# Altium integrated library TI Power Management Battery Management.IntLib: 949 symbols (part 50 of 62)
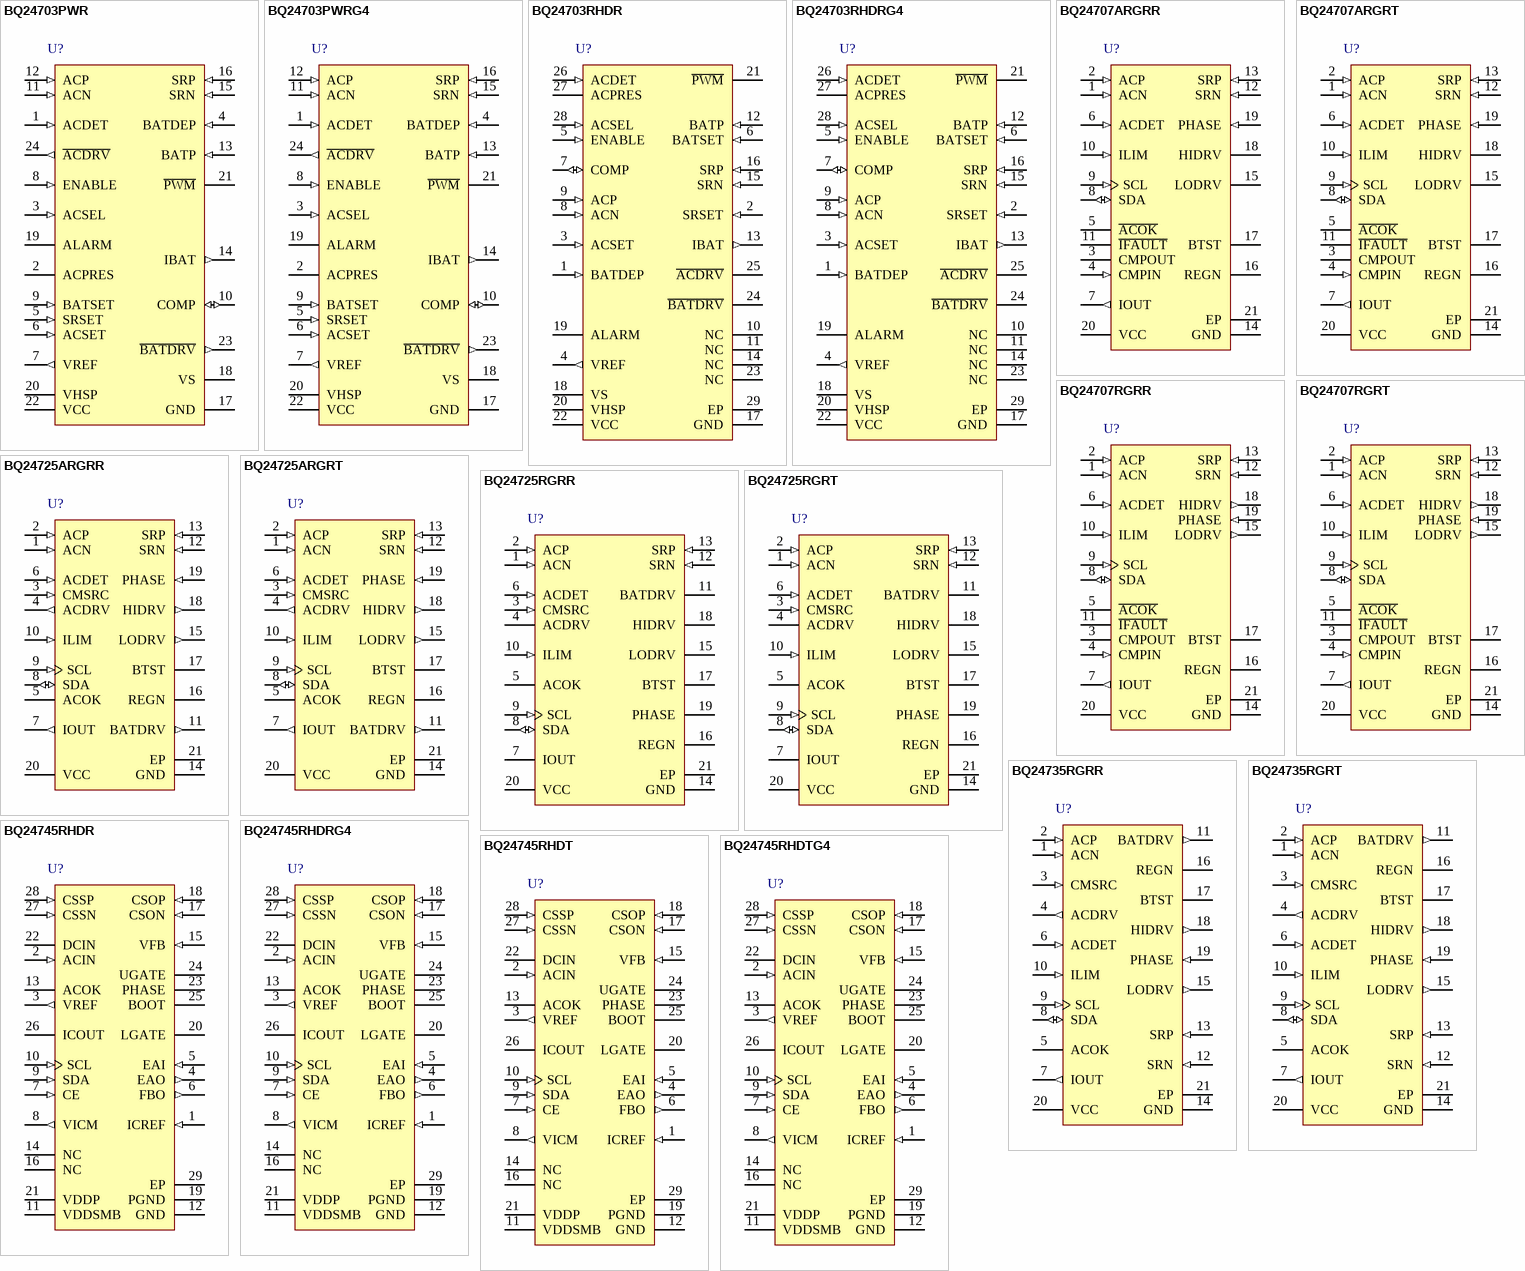
[diagram p83: symbols BQ24703PWR to BQ24745RHDTG4]

## BQ24735RGRT
designator U?
1-4 Cell Li+ Battery SMBus Charge Controller for Supporting Turbo Boost Mode, -40 to 85 degC, 20-pin VQFN (RGR), Green (RoHS & no Sb/Br); PartNumber: BQ24735RGRT; Manufacturer: Texas Instruments; Lead Acid: N; SubFamily: Battery Charge Management; DatasheetVersion: SLUSAK9; PackageVersion: revA, Apr-2009; PackageReference: RGR20-2050X2050TP; PackageDescription: 20-Pin Plastic Quad Flatpack No-Lead, 3.5 x 3.5 mm Body, 0.5 mm Pitch, Exposed Pad; Supplier 1: Digi-Key; Supplier Part Number 1: 296-29535-2-ND; Supplier 2: Digi-Key; Supplier Part Number 2: 296-29535-1-ND; Supplier 3: Digi-Key; Supplier Part Number 3: 296-29535-6-ND; Supplier 4: Farnell; Supplier Part Number 4: 2064218; Supplier 5: Newark; Supplier Part Number 5: 71T7469; Supplier 6: Newark; Supplier Part Number 6: 64T2887; Supplier 7: Mouser; Supplier Part Number 7: 595-BQ24735RGRT; Eco-Plan: Green (RoHS & no Sb/Br); Li-Ion: N; Li-Polymer: N; NiCd: N; NiMH: N; Over Voltage Protection: N; Mounting Technology: Surface Mount; ComponentLink1Description: Datasheet; ComponentLink1URL: http://www.ti.com/general/docs/lit/getliterature.tsp?genericPartNumber=BQ24735&fileType=pdf
footprint RGR20-2050X2050TP (QFN, 20-Leads, Body 3.5x3.5mm, Pitch 0.5mm, Thermal Pad 2.05x2.05mm, TI Recommended)
pins: 1 ACN (in) "Input current sense resistor negative input. Place an optional 0.1uF ceramic capacitor from ACN to GND for common-mode filtering. Place a 0.1uF ceramic capacitor from ACN to ACP to provide differential mode filtering.", 2 ACP (in) "Input current sense resistor positive input. Place a 0.1uF ceramic capacitor from ACP to GND for common-mode filtering. Place a 0.1µF ceramic capacitor from ACN to ACP to provide differential-mode filtering.", 3 CMSRC (in) "ACDRV charge pump source input. Place a 4k ohm  resistor from CMSRC to the common source of ACFET (Q1) and RBFET (Q2) limits the in-rush current on CMSRC pin.", 4 ACDRV (out) "Charge pump output to drive both adapter input n-channel MOSFET (ACFET) and reverse blocking n-channel MOSFET (RBFET). ACDRV voltage is 6V above CMSRC when voltage on ACDET pin is between 2.4V to 3.15V, voltage on VCC pin is (See Datasheet)", 5 ACOK (oc) "AC adapter detection open drain output. It is pulled HIGH to external pull-up supply rail by external pull-up resistor when voltage on ACDET pin is between 2.4V and 3.15V, and voltage on VCC is above UVLO and voltage on VCC (See Datasheet)", 6 ACDET (in) "Adapter detection input. Program adapter valid input threshold by connecting a resistor divider from adapter input to ACDET pin to GND pin. When ACDET pin is above 0.6V and VCC is above UVLO, REGN LDO is present, ACOK (See Datasheet)", 7 IOUT (out) "Buffered adapter or charge current output, selectable with SMBus command ChargeOption(). IOUT voltage is 20 times the differential voltage across sense resistor. Place a 100pF or less ceramic decoupling capacitor from IOUT (See Datasheet)", 8 SDA (io) "SMBus open-drain data I/O. Connect to SMBus data line from the host controller or smart battery. Connect a 10kohm pull-up resistor according to SMBus specifications.", 9 SCL (in) "SMBus open-drain clock input. Connect to SMBus clock line from the host controller or smart battery. Connect a 10kohm pull-up resistor according to SMBus specifications.", 10 ILIM (in) "Charge current limit input. Program ILIM voltage by connecting a resistor divider from system reference 3.3V rail to ILIM pin to GND pin. The lower of ILIM voltage or DAC limit voltage sets charge current regulation limit. (See Datasheet)", 11 BATDRV (out) "Charge pump output to drive Battery to System n-channel MOSFET (BATFET). BATDRV voltage is 6V above SRN to turn on BATFET to power the system from battery. BATDRV voltage is SRN voltage to turn off BATFET to power system (See Datasheet)", 12 SRN (in) "Charge current sense resistor negative input. SRN pin is for battery voltage sensing as well. Connect SRN pin to a 7.5 ohm resistor first then from resistor another terminal connect a 0.1uF ceramic capacitor to GND for (See Datasheet)", 13 SRP (in) "Charge current sense resistor positive input. Connect SRP pin to a 10 ohm resistor first then from resistor another terminal connect to current sensing resistor. Connect a 0.1uF ceramic capacitor between current sensing (See Datasheet)", 14 GND (power) "IC ground. On PCB layout, connect to analog ground plane, and only connect to power ground plane through the power pad underneath IC.", 15 LODRV (out) "Low side power MOSFET driver output. Connect to low side n-channel MOSFET gate.", 16 REGN (power) "Linear regulator output. REGN is the output of the 6V linear regulator supplied from VCC. The LDO is active when voltage on ACDET pin is above 0.6V and voltage on VCC is above UVLO. Connect a 1uF ceramic capacitor from REGN (See Datasheet)", 17 BTST (power) "High side power MOSFET driver power supply. Connect a 0.047uF capacitor from BTST to PHASE, and a bootstrap Schottky diode from REGN to BTST", 18 HIDRV (out) "High side power MOSFET driver output. Connect to the high side n-channel MOSFET gate.", 19 PHASE (in) "High side power MOSFET driver source. Connect to the source of the high side n-channel MOSFET", 20 VCC (power) "Input supply, diode OR from adapter or battery voltage. Use 10ohm resistor and 1uF capacitor to ground as low pass filter to limit inrush current.", 21 EP (power) "Exposed pad beneath the IC. Analog ground and power ground star-connected only at the PowerPad plane. Always solder PowerPad to the board, and have vias on the PowerPad plane connecting to analog ground and power ground (See Datasheet)"

## BQ24745RHDR
designator U?
SMBus-Controlled Level 2 Multi-Chemistry Battery Charger with Input Current Detect Comparator, 7 V, 0 to 125 degC, 28-pin VQFN (RHD), Green (RoHS & no Sb/Br); PartNumber: BQ24745RHDR; Manufacturer: Texas Instruments; Lead Acid: Y; Over Voltage Protection: N; SubFamily: Battery Charge Management; Vin(Min)(V): 7; DatasheetVersion: SLUS761D; PackageVersion: revF, Sep-2011; PackageReference: RHD28-3150X3150TP; PackageDescription: 28-Pin Plastic Quad Flatpack No-Lead, 5 x 5 mm Body, 0.5 mm Pitch, Exposed Pad; Supplier 1: Digi-Key; Supplier Part Number 1: BQ24745RHDR-ND; Supplier 2: Mouser; Supplier Part Number 2: 595-BQ24745RHDR; Eco-Plan: Green (RoHS & no Sb/Br); Li-Ion: Y; Li-Polymer: Y; NiCd: Y; NiMH: Y; Mounting Technology: Surface Mount; Code_JEDEC: MO-220; ComponentLink1Description: Datasheet; ComponentLink1URL: http://www.ti.com/general/docs/lit/getliterature.tsp?genericPartNumber=BQ24745&fileType=pdf
footprint RHD28-3150X3150TP (QFN, 28-Leads, Body 5x5mm, Pitch 0.5mm, Thermal Pad 3.15x3.15mm, TI Recommended)
pins: 1 ICREF (in) "Input-current comparator voltage reference input. Connect a resistor divider from VREF to ICREF and from ICREF to GND to program the reference for the ICOUT comparator. The ICREF pin voltage is compared to the VICM pin (See Datasheet)", 2 ACIN (in) "Adapter-detected voltage-set input. Program the adapter-detect threshold by connecting a resistor divider from the adapter input to ACIN pin to GND. Adapter voltage is detected if the ACIN-pin voltage is greater than 2.4 V. (See Datasheet)", 3 VREF (out) "3.3-V regulated voltage output. Place a 1-uF ceramic capacitor from VREF to the GND pin close to the IC. This voltage could be used for ratiometric programming of voltage and current regulation and for programming the ICREF (See Datasheet)", 4 EAO (out) "Error amplifier output for compensation. Connect the feedback-compensation components from EAO to EAI. Typically, a capacitor in parallel with a series resistor and capacitor. This node is internally compared to the PWM (See Datasheet)", 5 EAI (in) "Error amplifier input for compensation. Connect the feedback compensation components from EAI to EAO. Connect the input compensation from FBO to EAI.", 6 FBO (out) "Feedback output for compensation. Connect the input compensation from FBO to EAI. Typically, a resistor in parallel with a series resistor and capacitor.", 7 CE (in) "Charge enable active-high logic input. HI enables charge. LO disables charge.", 8 VICM (out) "Adapter current-sense-amplifier output. The VICM voltage is 20 times the differential voltage across CSSP-CSSN. Place a 100-pF (max) or less ceramic decoupling capacitor from VICM to GND.", 9 SDA (in) "SMBus data input. Connect to the SMBus data line from the host controller. A 10-k ohm pullup resistor to the host controller power rail is needed.", 10 SCL (in) "SMBus clock input. Connect to the SMBus clock line from the host controller. A 10-k ohm pullup resistor to the host controller power rail is needed.", 11 VDDSMB (power) "Input voltage for SMBus logic. Connect a 3.3-V supply rail or 5-V rail to the VDDSMB pin. Connect a 0.1-uF ceramic capacitor from VDDSMB to GND for decoupling.", 12 GND (power) "Analog ground. On PCB layout, connect to the analog ground plane, and only connect to PGND through the thermal pad underneath the IC.", 13 ACOK (oc) "Valid adapter active-high detect logic open-drain output. Pulled HI when Input voltage is above the ACIN programmed threshold. Connect a 10-k ohm pullup resistor from the ACOK pin to pull up the supply rail.", 14 NC "No connect. Pin floating internally.", 15 VFB (in) "Battery-voltage remote sense. Directly connect a Kelvin sense trace from the battery-pack positive terminal to the VFB pin to sense the battery pack voltage accurately. Place a 0.1-uF capacitor from VFB to GND close to the (See Datasheet)", 16 NC "No Connect. Pin floating internally", 17 CSON (in) "Charge-current sense resistor, negative input. An optional 0.1-uF ceramic capacitor is placed from the CSON pin to GND for common-mode filtering. A 0.1-uF ceramic capacitor is placed from CSON to CSOP to provide (See Datasheet)", 18 CSOP (in) "Charge-current sense resistor, positive input. A 0.1-uF ceramic capacitor is placed from CSOP pin to GND for common-mode filtering. A 0.1-uF ceramic capacitor is placed from CSON to CSOP to provide differential-mode (See Datasheet)", 19 PGND (power) "Power ground. On PCB layout, connect directly to the source of the low-side power MOSFET, and to the to ground connection of the input and output capacitors of the charger. Only connect to GND through the thermal pad (See Datasheet)", 20 LGATE "PWM low-side driver output. Connect to the gate of the low-side power MOSFET with a short trace.", 21 VDDP (power) "PWM low-side driver positive 6-V supply output. Connect a 1-uF ceramic capacitor from VDDP to the PGND pin, close to the IC. Use for high-side driver bootstrap voltage by connecting a small signal Schottky diode from VDDP to (See Datasheet)", 22 DCIN (power) "IC-power positive supply. Connect to the common-source (diode-OR) point: source of high-side P-channel MOSFET and source of reverse blocking power P-channel MOSFET. Place a 1-uF ceramic capacitor from DCIN to the GND pin (See Datasheet)", 23 PHASE (power) "PWM high-side driver negative supply. Connect to the phase-switching node (junction of the low-side power MOSFET drain, high-side power MOSFET source, and output inductor). Connect the 0.1-uF bootstrap capacitor from PHASE (See Datasheet)", 24 UGATE "PWM high-side driver output. Connect to the gate of the high-side power MOSFET with a short trace.", 25 BOOT (power) "PWM high-side driver positive supply. Connect a 0.1-uF bootstrap ceramic capacitor from BOOT to PHASE. Connect a small bootstrap Schottky diode from VDDP to BOOT.", 26 ICOUT (oc) "Input-current comparator active-high open-drain logic output. Place a 10-k ohm pullup resistor from the ICOUT pin to the pullup voltage rail. Place a positive-feedback resistor from the ICOUT pin to the ICREF pin for (See Datasheet)", 27 CSSN (in) "Adapter current-sense resistor, negative input. An optional 0.1-uF ceramic capacitor is placed from the CSSN pin to GND for common-mode filtering. A 0.1-uF ceramic capacitor is placed from CSSN to CSSP to provide (See Datasheet)", 28 CSSP (in) "Adapter current-sense resistor, positive input. A 0.1-uF ceramic capacitor is placed from the CSSP pin to GND for common-mode filtering. A 0.1-uF ceramic capacitor is placed from CSSN to CSSP to provide differential-mode (See Datasheet)", 29 EP (power) "Exposed pad"

## BQ24745RHDRG4
designator U?
SMBus-Controlled Level 2 Multi-Chemistry Battery Charger with Input Current Detect Comparator, 7 V, 0 to 125 degC, 28-pin VQFN (RHD), Green (RoHS & no Sb/Br); PartNumber: BQ24745RHDRG4; Manufacturer: Texas Instruments; Lead Acid: Y; Over Voltage Protection: N; SubFamily: Battery Charge Management; Vin(Min)(V): 7; DatasheetVersion: SLUS761D; PackageVersion: revF, Sep-2011; PackageReference: RHD28-3150X3150TP; PackageDescription: 28-Pin Plastic Quad Flatpack No-Lead, 5 x 5 mm Body, 0.5 mm Pitch, Exposed Pad; Supplier 1: Digi-Key; Supplier Part Number 1: BQ24745RHDRG4-ND; Supplier 2: Mouser; Supplier Part Number 2: 595-BQ24745RHDRG4; Eco-Plan: Green (RoHS & no Sb/Br); Li-Ion: Y; Li-Polymer: Y; NiCd: Y; NiMH: Y; Mounting Technology: Surface Mount; Code_JEDEC: MO-220; ComponentLink1Description: Datasheet; ComponentLink1URL: http://www.ti.com/general/docs/lit/getliterature.tsp?genericPartNumber=BQ24745&fileType=pdf
footprint RHD28-3150X3150TP (QFN, 28-Leads, Body 5x5mm, Pitch 0.5mm, Thermal Pad 3.15x3.15mm, TI Recommended)
pins: 1 ICREF (in) "Input-current comparator voltage reference input. Connect a resistor divider from VREF to ICREF and from ICREF to GND to program the reference for the ICOUT comparator. The ICREF pin voltage is compared to the VICM pin (See Datasheet)", 2 ACIN (in) "Adapter-detected voltage-set input. Program the adapter-detect threshold by connecting a resistor divider from the adapter input to ACIN pin to GND. Adapter voltage is detected if the ACIN-pin voltage is greater than 2.4 V. (See Datasheet)", 3 VREF (out) "3.3-V regulated voltage output. Place a 1-uF ceramic capacitor from VREF to the GND pin close to the IC. This voltage could be used for ratiometric programming of voltage and current regulation and for programming the ICREF (See Datasheet)", 4 EAO (out) "Error amplifier output for compensation. Connect the feedback-compensation components from EAO to EAI. Typically, a capacitor in parallel with a series resistor and capacitor. This node is internally compared to the PWM (See Datasheet)", 5 EAI (in) "Error amplifier input for compensation. Connect the feedback compensation components from EAI to EAO. Connect the input compensation from FBO to EAI.", 6 FBO (out) "Feedback output for compensation. Connect the input compensation from FBO to EAI. Typically, a resistor in parallel with a series resistor and capacitor.", 7 CE (in) "Charge enable active-high logic input. HI enables charge. LO disables charge.", 8 VICM (out) "Adapter current-sense-amplifier output. The VICM voltage is 20 times the differential voltage across CSSP-CSSN. Place a 100-pF (max) or less ceramic decoupling capacitor from VICM to GND.", 9 SDA (in) "SMBus data input. Connect to the SMBus data line from the host controller. A 10-k ohm pullup resistor to the host controller power rail is needed.", 10 SCL (in) "SMBus clock input. Connect to the SMBus clock line from the host controller. A 10-k ohm pullup resistor to the host controller power rail is needed.", 11 VDDSMB (power) "Input voltage for SMBus logic. Connect a 3.3-V supply rail or 5-V rail to the VDDSMB pin. Connect a 0.1-uF ceramic capacitor from VDDSMB to GND for decoupling.", 12 GND (power) "Analog ground. On PCB layout, connect to the analog ground plane, and only connect to PGND through the thermal pad underneath the IC.", 13 ACOK (oc) "Valid adapter active-high detect logic open-drain output. Pulled HI when Input voltage is above the ACIN programmed threshold. Connect a 10-k ohm pullup resistor from the ACOK pin to pull up the supply rail.", 14 NC "No connect. Pin floating internally.", 15 VFB (in) "Battery-voltage remote sense. Directly connect a Kelvin sense trace from the battery-pack positive terminal to the VFB pin to sense the battery pack voltage accurately. Place a 0.1-uF capacitor from VFB to GND close to the (See Datasheet)", 16 NC "No Connect. Pin floating internally", 17 CSON (in) "Charge-current sense resistor, negative input. An optional 0.1-uF ceramic capacitor is placed from the CSON pin to GND for common-mode filtering. A 0.1-uF ceramic capacitor is placed from CSON to CSOP to provide (See Datasheet)", 18 CSOP (in) "Charge-current sense resistor, positive input. A 0.1-uF ceramic capacitor is placed from CSOP pin to GND for common-mode filtering. A 0.1-uF ceramic capacitor is placed from CSON to CSOP to provide differential-mode (See Datasheet)", 19 PGND (power) "Power ground. On PCB layout, connect directly to the source of the low-side power MOSFET, and to the to ground connection of the input and output capacitors of the charger. Only connect to GND through the thermal pad (See Datasheet)", 20 LGATE "PWM low-side driver output. Connect to the gate of the low-side power MOSFET with a short trace.", 21 VDDP (power) "PWM low-side driver positive 6-V supply output. Connect a 1-uF ceramic capacitor from VDDP to the PGND pin, close to the IC. Use for high-side driver bootstrap voltage by connecting a small signal Schottky diode from VDDP to (See Datasheet)", 22 DCIN (power) "IC-power positive supply. Connect to the common-source (diode-OR) point: source of high-side P-channel MOSFET and source of reverse blocking power P-channel MOSFET. Place a 1-uF ceramic capacitor from DCIN to the GND pin (See Datasheet)", 23 PHASE (power) "PWM high-side driver negative supply. Connect to the phase-switching node (junction of the low-side power MOSFET drain, high-side power MOSFET source, and output inductor). Connect the 0.1-uF bootstrap capacitor from PHASE (See Datasheet)", 24 UGATE "PWM high-side driver output. Connect to the gate of the high-side power MOSFET with a short trace.", 25 BOOT (power) "PWM high-side driver positive supply. Connect a 0.1-uF bootstrap ceramic capacitor from BOOT to PHASE. Connect a small bootstrap Schottky diode from VDDP to BOOT.", 26 ICOUT (oc) "Input-current comparator active-high open-drain logic output. Place a 10-k ohm pullup resistor from the ICOUT pin to the pullup voltage rail. Place a positive-feedback resistor from the ICOUT pin to the ICREF pin for (See Datasheet)", 27 CSSN (in) "Adapter current-sense resistor, negative input. An optional 0.1-uF ceramic capacitor is placed from the CSSN pin to GND for common-mode filtering. A 0.1-uF ceramic capacitor is placed from CSSN to CSSP to provide (See Datasheet)", 28 CSSP (in) "Adapter current-sense resistor, positive input. A 0.1-uF ceramic capacitor is placed from the CSSP pin to GND for common-mode filtering. A 0.1-uF ceramic capacitor is placed from CSSN to CSSP to provide differential-mode (See Datasheet)", 29 EP (power) "Exposed pad"

## BQ24745RHDT
designator U?
SMBus-Controlled Level 2 Multi-Chemistry Battery Charger with Input Current Detect Comparator, 7 V, 0 to 125 degC, 28-pin VQFN (RHD), Green (RoHS & no Sb/Br); PartNumber: BQ24745RHDT; Manufacturer: Texas Instruments; Lead Acid: Y; Over Voltage Protection: N; SubFamily: Battery Charge Management; Vin(Min)(V): 7; DatasheetVersion: SLUS761D; PackageVersion: revF, Sep-2011; PackageReference: RHD28-3150X3150TP; PackageDescription: 28-Pin Plastic Quad Flatpack No-Lead, 5 x 5 mm Body, 0.5 mm Pitch, Exposed Pad; Supplier 1: Digi-Key; Supplier Part Number 1: 296-22995-2-ND; Supplier 2: Digi-Key; Supplier Part Number 2: 296-22995-1-ND; Supplier 3: Digi-Key; Supplier Part Number 3: 296-22995-6-ND; Supplier 4: Farnell; Supplier Part Number 4: 1647900; Supplier 5: Mouser; Supplier Part Number 5: 595-BQ24745RHDT; Eco-Plan: Green (RoHS & no Sb/Br); Li-Ion: Y; Li-Polymer: Y; NiCd: Y; NiMH: Y; Mounting Technology: Surface Mount; Code_JEDEC: MO-220; ComponentLink1Description: Datasheet; ComponentLink1URL: http://www.ti.com/general/docs/lit/getliterature.tsp?genericPartNumber=BQ24745&fileType=pdf
footprint RHD28-3150X3150TP (QFN, 28-Leads, Body 5x5mm, Pitch 0.5mm, Thermal Pad 3.15x3.15mm, TI Recommended)
pins: 1 ICREF (in) "Input-current comparator voltage reference input. Connect a resistor divider from VREF to ICREF and from ICREF to GND to program the reference for the ICOUT comparator. The ICREF pin voltage is compared to the VICM pin (See Datasheet)", 2 ACIN (in) "Adapter-detected voltage-set input. Program the adapter-detect threshold by connecting a resistor divider from the adapter input to ACIN pin to GND. Adapter voltage is detected if the ACIN-pin voltage is greater than 2.4 V. (See Datasheet)", 3 VREF (out) "3.3-V regulated voltage output. Place a 1-uF ceramic capacitor from VREF to the GND pin close to the IC. This voltage could be used for ratiometric programming of voltage and current regulation and for programming the ICREF (See Datasheet)", 4 EAO (out) "Error amplifier output for compensation. Connect the feedback-compensation components from EAO to EAI. Typically, a capacitor in parallel with a series resistor and capacitor. This node is internally compared to the PWM (See Datasheet)", 5 EAI (in) "Error amplifier input for compensation. Connect the feedback compensation components from EAI to EAO. Connect the input compensation from FBO to EAI.", 6 FBO (out) "Feedback output for compensation. Connect the input compensation from FBO to EAI. Typically, a resistor in parallel with a series resistor and capacitor.", 7 CE (in) "Charge enable active-high logic input. HI enables charge. LO disables charge.", 8 VICM (out) "Adapter current-sense-amplifier output. The VICM voltage is 20 times the differential voltage across CSSP-CSSN. Place a 100-pF (max) or less ceramic decoupling capacitor from VICM to GND.", 9 SDA (in) "SMBus data input. Connect to the SMBus data line from the host controller. A 10-k ohm pullup resistor to the host controller power rail is needed.", 10 SCL (in) "SMBus clock input. Connect to the SMBus clock line from the host controller. A 10-k ohm pullup resistor to the host controller power rail is needed.", 11 VDDSMB (power) "Input voltage for SMBus logic. Connect a 3.3-V supply rail or 5-V rail to the VDDSMB pin. Connect a 0.1-uF ceramic capacitor from VDDSMB to GND for decoupling.", 12 GND (power) "Analog ground. On PCB layout, connect to the analog ground plane, and only connect to PGND through the thermal pad underneath the IC.", 13 ACOK (oc) "Valid adapter active-high detect logic open-drain output. Pulled HI when Input voltage is above the ACIN programmed threshold. Connect a 10-k ohm pullup resistor from the ACOK pin to pull up the supply rail.", 14 NC "No connect. Pin floating internally.", 15 VFB (in) "Battery-voltage remote sense. Directly connect a Kelvin sense trace from the battery-pack positive terminal to the VFB pin to sense the battery pack voltage accurately. Place a 0.1-uF capacitor from VFB to GND close to the (See Datasheet)", 16 NC "No Connect. Pin floating internally", 17 CSON (in) "Charge-current sense resistor, negative input. An optional 0.1-uF ceramic capacitor is placed from the CSON pin to GND for common-mode filtering. A 0.1-uF ceramic capacitor is placed from CSON to CSOP to provide (See Datasheet)", 18 CSOP (in) "Charge-current sense resistor, positive input. A 0.1-uF ceramic capacitor is placed from CSOP pin to GND for common-mode filtering. A 0.1-uF ceramic capacitor is placed from CSON to CSOP to provide differential-mode (See Datasheet)", 19 PGND (power) "Power ground. On PCB layout, connect directly to the source of the low-side power MOSFET, and to the to ground connection of the input and output capacitors of the charger. Only connect to GND through the thermal pad (See Datasheet)", 20 LGATE "PWM low-side driver output. Connect to the gate of the low-side power MOSFET with a short trace.", 21 VDDP (power) "PWM low-side driver positive 6-V supply output. Connect a 1-uF ceramic capacitor from VDDP to the PGND pin, close to the IC. Use for high-side driver bootstrap voltage by connecting a small signal Schottky diode from VDDP to (See Datasheet)", 22 DCIN (power) "IC-power positive supply. Connect to the common-source (diode-OR) point: source of high-side P-channel MOSFET and source of reverse blocking power P-channel MOSFET. Place a 1-uF ceramic capacitor from DCIN to the GND pin (See Datasheet)", 23 PHASE (power) "PWM high-side driver negative supply. Connect to the phase-switching node (junction of the low-side power MOSFET drain, high-side power MOSFET source, and output inductor). Connect the 0.1-uF bootstrap capacitor from PHASE (See Datasheet)", 24 UGATE "PWM high-side driver output. Connect to the gate of the high-side power MOSFET with a short trace.", 25 BOOT (power) "PWM high-side driver positive supply. Connect a 0.1-uF bootstrap ceramic capacitor from BOOT to PHASE. Connect a small bootstrap Schottky diode from VDDP to BOOT.", 26 ICOUT (oc) "Input-current comparator active-high open-drain logic output. Place a 10-k ohm pullup resistor from the ICOUT pin to the pullup voltage rail. Place a positive-feedback resistor from the ICOUT pin to the ICREF pin for (See Datasheet)", 27 CSSN (in) "Adapter current-sense resistor, negative input. An optional 0.1-uF ceramic capacitor is placed from the CSSN pin to GND for common-mode filtering. A 0.1-uF ceramic capacitor is placed from CSSN to CSSP to provide (See Datasheet)", 28 CSSP (in) "Adapter current-sense resistor, positive input. A 0.1-uF ceramic capacitor is placed from the CSSP pin to GND for common-mode filtering. A 0.1-uF ceramic capacitor is placed from CSSN to CSSP to provide differential-mode (See Datasheet)", 29 EP (power) "Exposed pad"

## BQ24745RHDTG4
designator U?
SMBus-Controlled Level 2 Multi-Chemistry Battery Charger with Input Current Detect Comparator, 7 V, 0 to 125 degC, 28-pin VQFN (RHD), Green (RoHS & no Sb/Br); PartNumber: BQ24745RHDTG4; Manufacturer: Texas Instruments; Lead Acid: Y; Over Voltage Protection: N; SubFamily: Battery Charge Management; Vin(Min)(V): 7; DatasheetVersion: SLUS761D; PackageVersion: revF, Sep-2011; PackageReference: RHD28-3150X3150TP; PackageDescription: 28-Pin Plastic Quad Flatpack No-Lead, 5 x 5 mm Body, 0.5 mm Pitch, Exposed Pad; Supplier 1: Digi-Key; Supplier Part Number 1: BQ24745RHDTG4-ND; Supplier 2: Mouser; Supplier Part Number 2: 595-BQ24745RHDTG4; Eco-Plan: Green (RoHS & no Sb/Br); Li-Ion: Y; Li-Polymer: Y; NiCd: Y; NiMH: Y; Mounting Technology: Surface Mount; Code_JEDEC: MO-220; ComponentLink1Description: Datasheet; ComponentLink1URL: http://www.ti.com/general/docs/lit/getliterature.tsp?genericPartNumber=BQ24745&fileType=pdf
footprint RHD28-3150X3150TP (QFN, 28-Leads, Body 5x5mm, Pitch 0.5mm, Thermal Pad 3.15x3.15mm, TI Recommended)
pins: 1 ICREF (in) "Input-current comparator voltage reference input. Connect a resistor divider from VREF to ICREF and from ICREF to GND to program the reference for the ICOUT comparator. The ICREF pin voltage is compared to the VICM pin (See Datasheet)", 2 ACIN (in) "Adapter-detected voltage-set input. Program the adapter-detect threshold by connecting a resistor divider from the adapter input to ACIN pin to GND. Adapter voltage is detected if the ACIN-pin voltage is greater than 2.4 V. (See Datasheet)", 3 VREF (out) "3.3-V regulated voltage output. Place a 1-uF ceramic capacitor from VREF to the GND pin close to the IC. This voltage could be used for ratiometric programming of voltage and current regulation and for programming the ICREF (See Datasheet)", 4 EAO (out) "Error amplifier output for compensation. Connect the feedback-compensation components from EAO to EAI. Typically, a capacitor in parallel with a series resistor and capacitor. This node is internally compared to the PWM (See Datasheet)", 5 EAI (in) "Error amplifier input for compensation. Connect the feedback compensation components from EAI to EAO. Connect the input compensation from FBO to EAI.", 6 FBO (out) "Feedback output for compensation. Connect the input compensation from FBO to EAI. Typically, a resistor in parallel with a series resistor and capacitor.", 7 CE (in) "Charge enable active-high logic input. HI enables charge. LO disables charge.", 8 VICM (out) "Adapter current-sense-amplifier output. The VICM voltage is 20 times the differential voltage across CSSP-CSSN. Place a 100-pF (max) or less ceramic decoupling capacitor from VICM to GND.", 9 SDA (in) "SMBus data input. Connect to the SMBus data line from the host controller. A 10-k ohm pullup resistor to the host controller power rail is needed.", 10 SCL (in) "SMBus clock input. Connect to the SMBus clock line from the host controller. A 10-k ohm pullup resistor to the host controller power rail is needed.", 11 VDDSMB (power) "Input voltage for SMBus logic. Connect a 3.3-V supply rail or 5-V rail to the VDDSMB pin. Connect a 0.1-uF ceramic capacitor from VDDSMB to GND for decoupling.", 12 GND (power) "Analog ground. On PCB layout, connect to the analog ground plane, and only connect to PGND through the thermal pad underneath the IC.", 13 ACOK (oc) "Valid adapter active-high detect logic open-drain output. Pulled HI when Input voltage is above the ACIN programmed threshold. Connect a 10-k ohm pullup resistor from the ACOK pin to pull up the supply rail.", 14 NC "No connect. Pin floating internally.", 15 VFB (in) "Battery-voltage remote sense. Directly connect a Kelvin sense trace from the battery-pack positive terminal to the VFB pin to sense the battery pack voltage accurately. Place a 0.1-uF capacitor from VFB to GND close to the (See Datasheet)", 16 NC "No Connect. Pin floating internally", 17 CSON (in) "Charge-current sense resistor, negative input. An optional 0.1-uF ceramic capacitor is placed from the CSON pin to GND for common-mode filtering. A 0.1-uF ceramic capacitor is placed from CSON to CSOP to provide (See Datasheet)", 18 CSOP (in) "Charge-current sense resistor, positive input. A 0.1-uF ceramic capacitor is placed from CSOP pin to GND for common-mode filtering. A 0.1-uF ceramic capacitor is placed from CSON to CSOP to provide differential-mode (See Datasheet)", 19 PGND (power) "Power ground. On PCB layout, connect directly to the source of the low-side power MOSFET, and to the to ground connection of the input and output capacitors of the charger. Only connect to GND through the thermal pad (See Datasheet)", 20 LGATE "PWM low-side driver output. Connect to the gate of the low-side power MOSFET with a short trace.", 21 VDDP (power) "PWM low-side driver positive 6-V supply output. Connect a 1-uF ceramic capacitor from VDDP to the PGND pin, close to the IC. Use for high-side driver bootstrap voltage by connecting a small signal Schottky diode from VDDP to (See Datasheet)", 22 DCIN (power) "IC-power positive supply. Connect to the common-source (diode-OR) point: source of high-side P-channel MOSFET and source of reverse blocking power P-channel MOSFET. Place a 1-uF ceramic capacitor from DCIN to the GND pin (See Datasheet)", 23 PHASE (power) "PWM high-side driver negative supply. Connect to the phase-switching node (junction of the low-side power MOSFET drain, high-side power MOSFET source, and output inductor). Connect the 0.1-uF bootstrap capacitor from PHASE (See Datasheet)", 24 UGATE "PWM high-side driver output. Connect to the gate of the high-side power MOSFET with a short trace.", 25 BOOT (power) "PWM high-side driver positive supply. Connect a 0.1-uF bootstrap ceramic capacitor from BOOT to PHASE. Connect a small bootstrap Schottky diode from VDDP to BOOT.", 26 ICOUT (oc) "Input-current comparator active-high open-drain logic output. Place a 10-k ohm pullup resistor from the ICOUT pin to the pullup voltage rail. Place a positive-feedback resistor from the ICOUT pin to the ICREF pin for (See Datasheet)", 27 CSSN (in) "Adapter current-sense resistor, negative input. An optional 0.1-uF ceramic capacitor is placed from the CSSN pin to GND for common-mode filtering. A 0.1-uF ceramic capacitor is placed from CSSN to CSSP to provide (See Datasheet)", 28 CSSP (in) "Adapter current-sense resistor, positive input. A 0.1-uF ceramic capacitor is placed from the CSSP pin to GND for common-mode filtering. A 0.1-uF ceramic capacitor is placed from CSSN to CSSP to provide differential-mode (See Datasheet)", 29 EP (power) "Exposed pad"

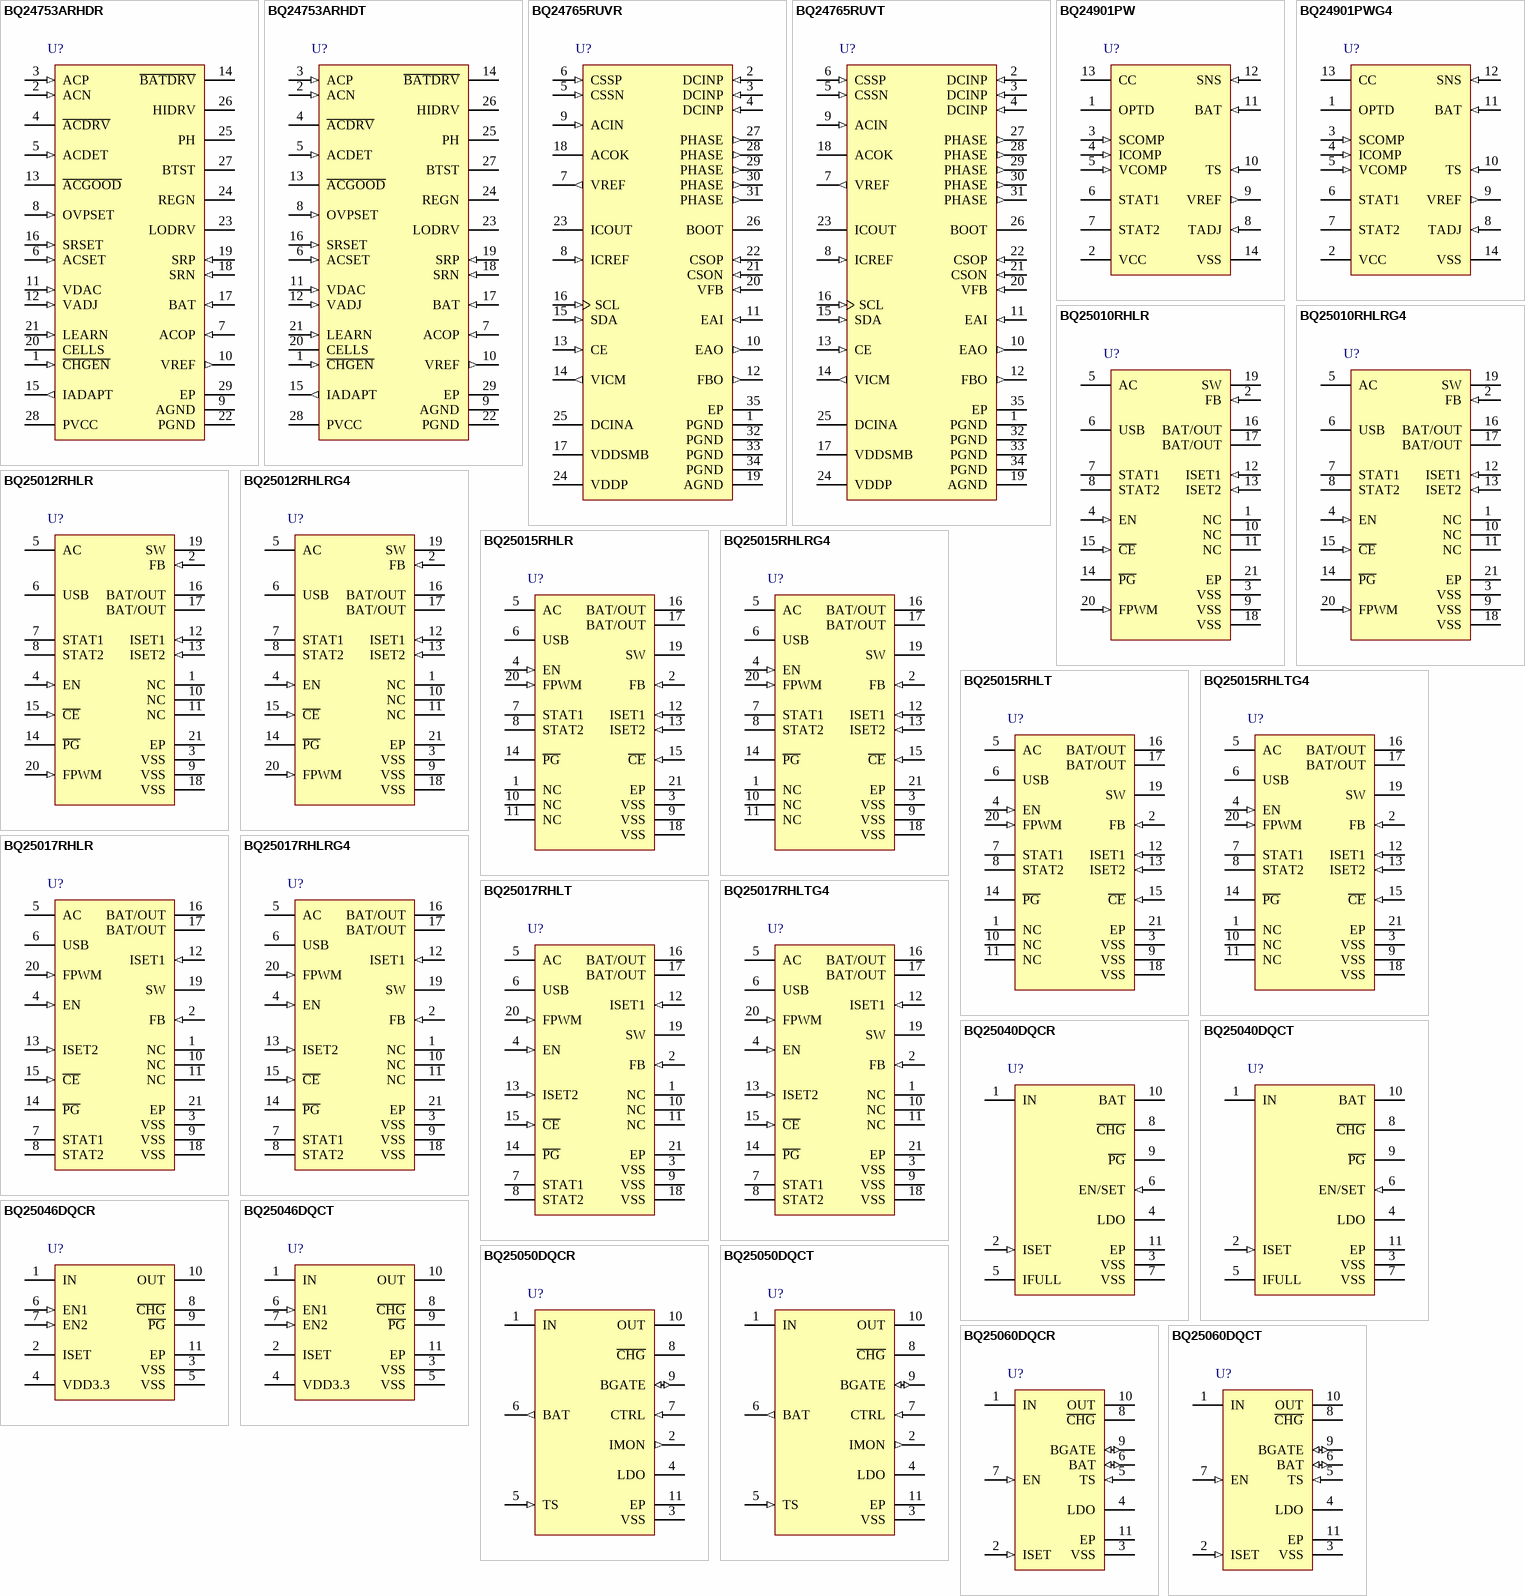
[diagram p27: symbols BQ24753ARHDR to BQ25060DQCT]

## BQ24753ARHDR
designator U?
Host-Controlled Li-Ion and Li-Polymer Battery Charger with Low Iq and System Power Selector, 7 V, -40 to 85 degC, 28-pin VQFN (RHD), Green (RoHS & no Sb/Br); PartNumber: BQ24753ARHDR; Manufacturer: Texas Instruments; Lead Acid: N; SubFamily: Battery Charge Management; Vin(Min)(V): 7; DatasheetVersion: SLUS920; PackageVersion: revF, Sep-2011; PackageReference: RHD28-3150X3150TP; PackageDescription: 28-Pin Plastic Quad Flatpack No-Lead, 5 x 5 mm Body, 0.5 mm Pitch, Exposed Pad; Supplier 1: Digi-Key; Supplier Part Number 1: BQ24753ARHDR-ND; Supplier 2: Mouser; Supplier Part Number 2: 595-BQ24753ARHDR; Eco-Plan: Green (RoHS & no Sb/Br); Li-Ion: N; Li-Polymer: N; NiCd: N; NiMH: N; Over Voltage Protection: N; Mounting Technology: Surface Mount; Code_JEDEC: MO-220; ComponentLink1Description: Datasheet; ComponentLink1URL: http://www.ti.com/general/docs/lit/getliterature.tsp?genericPartNumber=BQ24753A&fileType=pdf
footprint RHD28-3150X3150TP (QFN, 28-Leads, Body 5x5mm, Pitch 0.5mm, Thermal Pad 3.15x3.15mm, TI Recommended)
pins: 1 ~{CHGEN} (in) "Charge enable active-low logic input. LO enables charge. HI disables charge.", 2 ACN (in) "Adapter current sense resistor, negative input. A 0.1-uF ceramic capacitor is placed from ACN to ACP to provide differential-mode filtering. An optional 0.1-uF ceramic capacitor is placed from ACN pin to AGND for common-mode (See Datasheet)", 3 ACP (in) "Adapter current sense resistor, positive input. A 0.1-uF ceramic capacitor is placed from ACN to ACP to provide differential-mode filtering. A 0.1-uF ceramic capacitor is placed from ACP pin to AGND for common-mode filtering.", 4 ~{ACDRV} "AC adapter to system-switch driver output. Connect directly to the gate of the ACFET P-channel power MOSFET and the reverse conduction blocking P-channel power MOSFET. Connect both FETs as common-source. Connect the ACFET (See Datasheet)", 5 ACDET (in) "Adapter detected voltage set input. Program the adapter detect threshold by connecting a resistor divider from adapter input to ACDET pin to AGND pin. Adapter voltage is detected if ACDET-pin voltage is greater than 2.4 V. (See Datasheet)", 6 ACSET (in) "Adapter current set input. The voltage ratio of ACSET voltage versus VDAC voltage programs the input current regulation set-point during Dynamic Power Management (DPM). Program by connecting a resistor divider from VDAC to (See Datasheet)", 7 ACOP (in) "Input power limit set input. Program the input overpower time constant by placing a ceramic capacitor from ACOP to AGND. The capacitor sets the time that the input current limit, ACOC, can be sustained before exceeding the (See Datasheet)", 8 OVPSET (in) "Set input over voltage protection threshold. Charge is disabled and A\C\D\R\V\ is turned off if adapter input voltage is higher than the OVPSET programmed threshold. Input overvoltage, ACOV, disables charge and A\C\D\R\V\ (See Datasheet)", 9 AGND (power) "Analog ground. Ground connection for low-current sensitive analog and digital signals. On PCB layout, connect to the analog ground plane, and only connect to PGND through the PowerPad underneath the IC.", 10 VREF (out) "3.3-V regulated voltage output. Place a 1-uF ceramic capacitor from VREF to AGND pin close to the IC. This voltage could be used for ratiometric programming of voltage and current regulation. Do not apply an external voltage (See Datasheet)", 11 VDAC (in) "Charge voltage set reference input. Connect the VREF or external DAC voltage source to the VDAC pin. Battery voltage, charge current, and input current are programmed as a ratio of the VDAC pin voltage versus the VADJ, (See Datasheet)", 12 VADJ (in) "Charge voltage set input. The voltage ratio of VADJ voltage versus VDAC voltage programs the battery voltage regulation set-point. Program by connecting a resistor divider from VDAC to VADJ, to AGND; or, by connecting the (See Datasheet)", 13 ~{ACGOOD} (oc) "Valid adapter active-low detect logic open-drain output. Pulled low when Input voltage is above programmed ACDET.Connect a 10-k ohmpullup resistor from A\C\G\O\O\D\ to VREF, or to a different pullup-supply rail.", 14 ~{BATDRV} "Battery to system switch driver output. Gate drive for the battery to system load BAT PMOS power FET to isolate the system from the battery to prevent current flow from the system to the battery, while allowing a low (See Datasheet)", 15 IADAPT (out) "Adapter current sense amplifier output. IADAPT voltage is 20 times the differential voltage across ACP-ACN. Place a 100-pF or less ceramic decoupling capacitor from IADAPT to AGND.", 16 SRSET (in) "Charge current set input. The voltage ratio of SRSET voltage versus VDAC voltage programs the charge current regulation set-point. Program by connecting a resistor divider from VDAC to SRSET to AGND; or by connecting the (See Datasheet)", 17 BAT (in) "Battery voltage remote sense. Directly connect a kelvin sense trace from the battery pack positive terminal to the BAT pin to accurately sense the battery pack voltage. Place a 0.1-uF capacitor from BAT to AGND close to the (See Datasheet)", 18 SRN (in) "Charge current sense resistor, negative input. A 0.1-uF ceramic capacitor is placed from SRN to SRP to provide differential-mode filtering. An optional 0.1-uF ceramic capacitor is placed from SRN pin to AGND for common-mode (See Datasheet)", 19 SRP (in) "Charge current sense resistor, positive input. A 0.1-uF ceramic capacitor is placed from SRN to SRP to provide differential-mode filtering. A 0.1-uF ceramic capacitor is placed from SRP pin to AGND for common-mode filtering.", 20 CELLS "2, 3 or 4 cells selection logic input. Logic low programs 3 cell. Logic high programs 4 cell. Floating programs 2 cell.", 21 LEARN (in) "Learn mode logic input control pin -- logic high to override system selector when adapter is present, the battery is discharged to recalibrate the battery-pack gas gauge. When adapter is present and LEARN is high, battery (See Datasheet)", 22 PGND (power) "Power ground. Ground connection for high-current power converter node. On PCB layout, connect directly to source of low-side power MOSFET, to ground connection of in put and output capacitors of the charger. Only connect to (See Datasheet)", 23 LODRV "PWM low side driver output. Connect to the gate of the low-side power MOSFET with a short trace.", 24 REGN (power) "PWM low side driver positive 6-V supply output. Connect a 1-uF ceramic capacitor from REGN to PGND, close to the IC. Use for high-side driver bootstrap voltage by connecting a small-signal Schottky diode from REGN to BTST. (See Datasheet)", 25 PH (power) "PWM high side driver negative supply. Connect to the phase switching node (junction of the low-side power MOSFET drain, high-side power MOSFET source, and output inductor). Connect the 0.1-mF bootstrap capacitor from from PH (See Datasheet)", 26 HIDRV "PWM high side driver output. Connect to the gate of the high-side power MOSFET with a short trace.", 27 BTST (power) "PWM high side driver positive supply. Connect a 0.1-uF bootstrap ceramic capacitor from BTST to PH. Connect a small bootstrap Schottky diode from REGN to BTST.", 28 PVCC (power) "IC power positive supply. Connect to the common-source (diode-OR) point: source of high-side P-channel MOSFET and source of reverse-blocking power P-channel MOSFET. Place a 0.1-uF ceramic capacitor from PVCC to PGND pin (See Datasheet)", 29 EP (power) "Exposed pad beneath the IC. AGND and PGND star-connected only at the PowerPad plane. Always solder PowerPad to the board, and have vias on the PowerPad plane connecting to AGND and PGND planes. It also serves as a thermal (See Datasheet)"

## BQ24753ARHDT
designator U?
Host-Controlled Li-Ion and Li-Polymer Battery Charger with Low Iq and System Power Selector, 7 V, -40 to 85 degC, 28-pin VQFN (RHD), Green (RoHS & no Sb/Br); PartNumber: BQ24753ARHDT; Manufacturer: Texas Instruments; Lead Acid: N; SubFamily: Battery Charge Management; Vin(Min)(V): 7; DatasheetVersion: SLUS920; PackageVersion: revF, Sep-2011; PackageReference: RHD28-3150X3150TP; PackageDescription: 28-Pin Plastic Quad Flatpack No-Lead, 5 x 5 mm Body, 0.5 mm Pitch, Exposed Pad; Supplier 1: Digi-Key; Supplier Part Number 1: 296-24866-2-ND; Supplier 2: Digi-Key; Supplier Part Number 2: 296-24866-1-ND; Supplier 3: Digi-Key; Supplier Part Number 3: 296-24866-6-ND; Supplier 4: Mouser; Supplier Part Number 4: 595-BQ24753ARHDT; Eco-Plan: Green (RoHS & no Sb/Br); Li-Ion: N; Li-Polymer: N; NiCd: N; NiMH: N; Over Voltage Protection: N; Mounting Technology: Surface Mount; Code_JEDEC: MO-220; ComponentLink1Description: Datasheet; ComponentLink1URL: http://www.ti.com/general/docs/lit/getliterature.tsp?genericPartNumber=BQ24753A&fileType=pdf
footprint RHD28-3150X3150TP (QFN, 28-Leads, Body 5x5mm, Pitch 0.5mm, Thermal Pad 3.15x3.15mm, TI Recommended)
pins: 1 ~{CHGEN} (in) "Charge enable active-low logic input. LO enables charge. HI disables charge.", 2 ACN (in) "Adapter current sense resistor, negative input. A 0.1-uF ceramic capacitor is placed from ACN to ACP to provide differential-mode filtering. An optional 0.1-uF ceramic capacitor is placed from ACN pin to AGND for common-mode (See Datasheet)", 3 ACP (in) "Adapter current sense resistor, positive input. A 0.1-uF ceramic capacitor is placed from ACN to ACP to provide differential-mode filtering. A 0.1-uF ceramic capacitor is placed from ACP pin to AGND for common-mode filtering.", 4 ~{ACDRV} "AC adapter to system-switch driver output. Connect directly to the gate of the ACFET P-channel power MOSFET and the reverse conduction blocking P-channel power MOSFET. Connect both FETs as common-source. Connect the ACFET (See Datasheet)", 5 ACDET (in) "Adapter detected voltage set input. Program the adapter detect threshold by connecting a resistor divider from adapter input to ACDET pin to AGND pin. Adapter voltage is detected if ACDET-pin voltage is greater than 2.4 V. (See Datasheet)", 6 ACSET (in) "Adapter current set input. The voltage ratio of ACSET voltage versus VDAC voltage programs the input current regulation set-point during Dynamic Power Management (DPM). Program by connecting a resistor divider from VDAC to (See Datasheet)", 7 ACOP (in) "Input power limit set input. Program the input overpower time constant by placing a ceramic capacitor from ACOP to AGND. The capacitor sets the time that the input current limit, ACOC, can be sustained before exceeding the (See Datasheet)", 8 OVPSET (in) "Set input over voltage protection threshold. Charge is disabled and A\C\D\R\V\ is turned off if adapter input voltage is higher than the OVPSET programmed threshold. Input overvoltage, ACOV, disables charge and A\C\D\R\V\ (See Datasheet)", 9 AGND (power) "Analog ground. Ground connection for low-current sensitive analog and digital signals. On PCB layout, connect to the analog ground plane, and only connect to PGND through the PowerPad underneath the IC.", 10 VREF (out) "3.3-V regulated voltage output. Place a 1-uF ceramic capacitor from VREF to AGND pin close to the IC. This voltage could be used for ratiometric programming of voltage and current regulation. Do not apply an external voltage (See Datasheet)", 11 VDAC (in) "Charge voltage set reference input. Connect the VREF or external DAC voltage source to the VDAC pin. Battery voltage, charge current, and input current are programmed as a ratio of the VDAC pin voltage versus the VADJ, (See Datasheet)", 12 VADJ (in) "Charge voltage set input. The voltage ratio of VADJ voltage versus VDAC voltage programs the battery voltage regulation set-point. Program by connecting a resistor divider from VDAC to VADJ, to AGND; or, by connecting the (See Datasheet)", 13 ~{ACGOOD} (oc) "Valid adapter active-low detect logic open-drain output. Pulled low when Input voltage is above programmed ACDET.Connect a 10-k ohmpullup resistor from A\C\G\O\O\D\ to VREF, or to a different pullup-supply rail.", 14 ~{BATDRV} "Battery to system switch driver output. Gate drive for the battery to system load BAT PMOS power FET to isolate the system from the battery to prevent current flow from the system to the battery, while allowing a low (See Datasheet)", 15 IADAPT (out) "Adapter current sense amplifier output. IADAPT voltage is 20 times the differential voltage across ACP-ACN. Place a 100-pF or less ceramic decoupling capacitor from IADAPT to AGND.", 16 SRSET (in) "Charge current set input. The voltage ratio of SRSET voltage versus VDAC voltage programs the charge current regulation set-point. Program by connecting a resistor divider from VDAC to SRSET to AGND; or by connecting the (See Datasheet)", 17 BAT (in) "Battery voltage remote sense. Directly connect a kelvin sense trace from the battery pack positive terminal to the BAT pin to accurately sense the battery pack voltage. Place a 0.1-uF capacitor from BAT to AGND close to the (See Datasheet)", 18 SRN (in) "Charge current sense resistor, negative input. A 0.1-uF ceramic capacitor is placed from SRN to SRP to provide differential-mode filtering. An optional 0.1-uF ceramic capacitor is placed from SRN pin to AGND for common-mode (See Datasheet)", 19 SRP (in) "Charge current sense resistor, positive input. A 0.1-uF ceramic capacitor is placed from SRN to SRP to provide differential-mode filtering. A 0.1-uF ceramic capacitor is placed from SRP pin to AGND for common-mode filtering.", 20 CELLS "2, 3 or 4 cells selection logic input. Logic low programs 3 cell. Logic high programs 4 cell. Floating programs 2 cell.", 21 LEARN (in) "Learn mode logic input control pin -- logic high to override system selector when adapter is present, the battery is discharged to recalibrate the battery-pack gas gauge. When adapter is present and LEARN is high, battery (See Datasheet)", 22 PGND (power) "Power ground. Ground connection for high-current power converter node. On PCB layout, connect directly to source of low-side power MOSFET, to ground connection of in put and output capacitors of the charger. Only connect to (See Datasheet)", 23 LODRV "PWM low side driver output. Connect to the gate of the low-side power MOSFET with a short trace.", 24 REGN (power) "PWM low side driver positive 6-V supply output. Connect a 1-uF ceramic capacitor from REGN to PGND, close to the IC. Use for high-side driver bootstrap voltage by connecting a small-signal Schottky diode from REGN to BTST. (See Datasheet)", 25 PH (power) "PWM high side driver negative supply. Connect to the phase switching node (junction of the low-side power MOSFET drain, high-side power MOSFET source, and output inductor). Connect the 0.1-mF bootstrap capacitor from from PH (See Datasheet)", 26 HIDRV "PWM high side driver output. Connect to the gate of the high-side power MOSFET with a short trace.", 27 BTST (power) "PWM high side driver positive supply. Connect a 0.1-uF bootstrap ceramic capacitor from BTST to PH. Connect a small bootstrap Schottky diode from REGN to BTST.", 28 PVCC (power) "IC power positive supply. Connect to the common-source (diode-OR) point: source of high-side P-channel MOSFET and source of reverse-blocking power P-channel MOSFET. Place a 0.1-uF ceramic capacitor from PVCC to PGND pin (See Datasheet)", 29 EP (power) "Exposed pad beneath the IC. AGND and PGND star-connected only at the PowerPad plane. Always solder PowerPad to the board, and have vias on the PowerPad plane connecting to AGND and PGND planes. It also serves as a thermal (See Datasheet)"